# EAGLE library part 734-520 (library con-wago_3.81mm)
Serie 734, Federleiste mit geraden Einlötstiften / Series 734, Female connector with straight solder pins Polzahl / Pole No.: 20 Bemessungsspannung / Rated Voltage: 160 V Nennstrom / Nominal Current: 10 A Lötstiftlänge: / Solder Pin Length: 3.8 mm Farbe / Color: orange / orange Stand: 01.01.2012. Die jeweils aktuellen Daten zu diesem Artikel finden Sie in unserem Produktkatalog, den Sie unter www.wago.com einsehen können. As of: 01/01/2012. Please find the newest data for this article in our product catalogue, which can be viewed under www.wago.com.
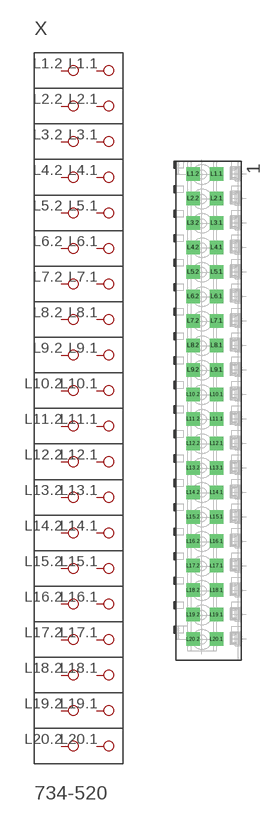
[diagram p47: symbol with the pads of P-734-520; footprint P-734-520]

Designator prefix X

## 734-520  [P-734-520]
L1.1  P1.1
L1.2  P1.2
L2.1  P2.1
L2.2  P2.2
L3.1  P3.1
L3.2  P3.2
L4.1  P4.1
L4.2  P4.2
L5.1  P5.1
L5.2  P5.2
L6.1  P6.1
L6.2  P6.2
L7.1  P7.1
L7.2  P7.2
L8.1  P8.1
L8.2  P8.2
L9.1  P9.1
L9.2  P9.2
L10.1  P10.1
L10.2  P10.2
L11.1  P11.1
L11.2  P11.2
L12.1  P12.1
L12.2  P12.2
L13.1  P13.1
L13.2  P13.2
L14.1  P14.1
L14.2  P14.2
L15.1  P15.1
L15.2  P15.2
L16.1  P16.1
L16.2  P16.2
L17.1  P17.1
L17.2  P17.2
L18.1  P18.1
L18.2  P18.2
L19.1  P19.1
L19.2  P19.2
L20.1  P20.1
L20.2  P20.2

## Footprint P-734-520 (pad centres in mm)
drill 1.4 square: L1.1 1.002,36.722; L1.2 -2.648,36.722; L2.1 1.002,32.912; L2.2 -2.648,32.912; L3.1 1.002,29.102; L3.2 -2.648,29.102; L4.1 1.002,25.292; L4.2 -2.648,25.292; L5.1 1.002,21.482; L5.2 -2.648,21.482; L6.1 1.002,17.672; L6.2 -2.648,17.672; L7.1 1.002,13.862; L7.2 -2.648,13.862; L8.1 1.002,10.052; L8.2 -2.648,10.052; L9.1 1.002,6.242; L9.2 -2.648,6.242; L10.1 1.002,2.432; L10.2 -2.648,2.432; L11.1 1.002,-1.378; L11.2 -2.648,-1.378; L12.1 1.002,-5.188; L12.2 -2.648,-5.188; L13.1 1.002,-8.998; L13.2 -2.648,-8.998; L14.1 1.002,-12.808; L14.2 -2.648,-12.808; L15.1 1.002,-16.618; L15.2 -2.648,-16.618; L16.1 1.002,-20.428; L16.2 -2.648,-20.428; L17.1 0.992,-24.238; L17.2 -2.658,-24.238; L18.1 0.992,-28.048; L18.2 -2.658,-28.048; L19.1 0.992,-31.858; L19.2 -2.658,-31.858; L20.1 0.992,-35.668; L20.2 -2.658,-35.668